# Altium schematic symbol library CL21B106KOQNNNE.SchLib: 1 symbol
Pins are listed as number, name and electrical type; pins without a type are passive.

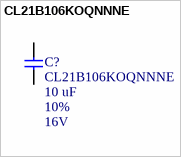
[diagram p0: symbol CL21B106KOQNNNE]

## CL21B106KOQNNNE
designator C?  Capacitence: 10 uF  Tolerance: 10%  Voltage - Rated: 16V
CAP CER 10UF 16V X7R 0805; Temperature Coefficient: X7R; Package: 0805; Footprint: C0805; ComponentLink1Description: Datasheet; ComponentLink1URL: https://media.digikey.com/pdf/Data%20Sheets/Samsung%20PDFs/CL_Series_MLCC_ds.pdf; Supplier 1: Digi-Key; Supplier Part Number 1: 1276-2872-1-ND; PN: CL21B106KOQNNNE
footprint C0805 (A generic C0805 footprint)
pins: 1, 2